# Altium footprint library DC_DC_LM2596.PcbLib: 1 footprints
Each footprint in its own frame and in the unit in brackets; x right, y up, seen from the top. Pads: shape width x height; smd on the part's side, far side on the other; paste and mask are expansions set on the pad; w line width, h text height; cw(c..) or ccw(c..) is an arc to the next point about the centre after c.
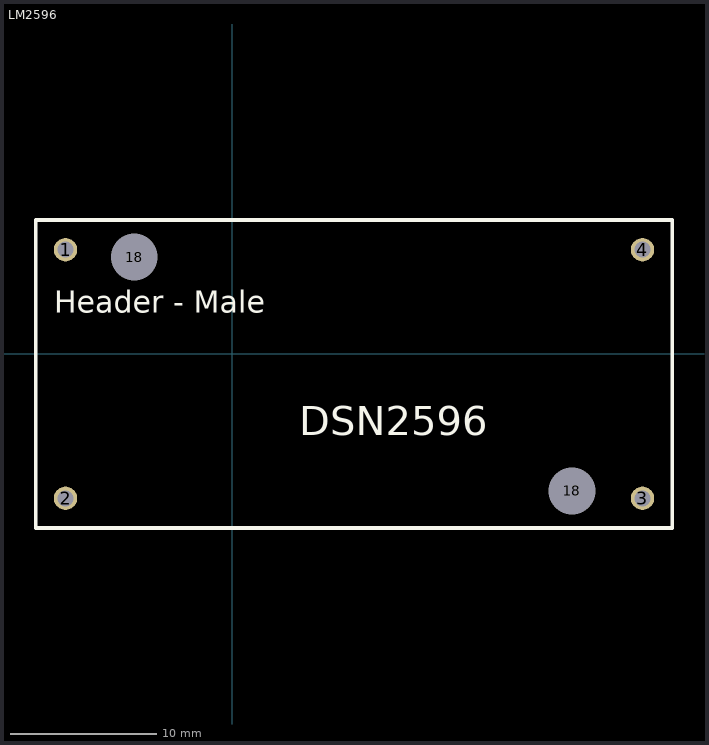
[diagram p0: the footprint, top view; thin cyan lines are the x and y axes]

## LM2596 [mil]
pads (6):
  round 62.99 hole 43.31: 1(-450,280) 2(-450,-390) 3(1105,-390) 4(1105,280)
  round 60 hole 125.98: 18(-265,260) 18(915,-370)
Top Overlay:
  lines w10: -530,-470 1185,-470 1185,360 1045,360 -530,360 -530,-470
  text "Header - Male" at -480,110 h59.06
  text "DSN2596" at 180,-220 h78.74
3D body "1x1 Male Pin Header.STEP": height 414.96, standoff -118.11, extent 1055,-439.21 1155.2,-340.79
3D body "1x1 Male Pin Header.STEP": height 414.96, standoff -118.11, extent 1055,230.79 1155.2,329.21
3D body "1x1 Male Pin Header.STEP": height 414.96, standoff -118.11, extent -500,-439.21 -399.8,-340.79
3D body "1x1 Male Pin Header.STEP": height 414.96, standoff -118.11, extent -500,230.79 -399.8,329.21
3D body "User Library-DC-DC MODULE LM2596s.STEP": height 606.69, standoff 62.98, extent -530,-466.77 1182.6,360